# Altium schematic symbol library CN HDR 34POS 2x17.Schlib: 1 symbol
Pins are listed as number, name and electrical type; pins without a type are passive.

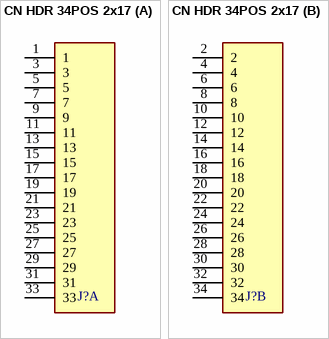
[diagram p0: symbol CN HDR 34POS 2x17]

## CN HDR 34POS 2x17
designator J?, comment 0.1" Header Female 34  (value not drawn)
Female Header THRU 34POS 2ROW 0.1" (2.54mm) pitch
part A pins: 1, 3, 5, 7, 9, 11, 13, 15, 17, 19, 21, 23, 25, 27, 29, 31, 33
part B pins: 2, 4, 6, 8, 10, 12, 14, 16, 18, 20, 22, 24, 26, 28, 30, 32, 34